# Altium schematic symbol library LM321LVIDCKR.SchLib: 1 symbol
Pins are listed as number, name and electrical type; pins without a type are passive.

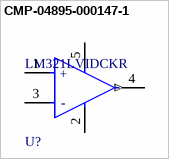
[diagram p0: symbol CMP-04895-000147-1]

## CMP-04895-000147-1
designator U?, comment LM321LVIDCKR
IC OPAMP GP 1 CIRCUIT SC70-5; RoHS Compliant: Yes
footprint FP-DCK0005A-IPC_A
footprint FP-DCK0005A-IPC_C
footprint FP-DCK0005A-MFG
footprint FP-DCK0005A-IPC_B
pins: 1 IN+ (hiz), 2 V- (power), 3 IN- (hiz), 4 OUT (out), 5 V+ (power)
text: +; -